# EAGLE library part M25PX80 (library CC3100)
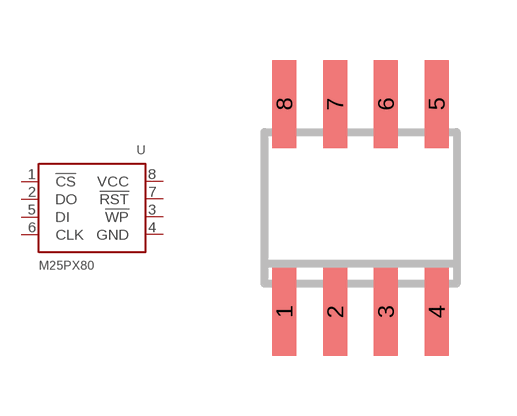
[diagram p1: symbol with the pads of SOIC8; footprint SOIC8]

Designator prefix U

## M25PX80  [SOIC8]
1  !CS!
2  DO
3  !WP!
4  GND
5  DI
6  CLK
7  !RST!
8  VCC

## Footprint SOIC8 (pad centres in mm)
Small Outline IC
smd 0.6 x 2.2: 1 -1.905,-2.6; 2 -0.635,-2.6; 3 0.635,-2.6; 4 1.905,-2.6; 5 1.905,2.6; 6 0.635,2.6; 7 -0.635,2.6; 8 -1.905,2.6